# Altium footprint library F83720700051.PcbLib: 1 footprints
Each footprint in its own frame and in the unit in brackets; x right, y up, seen from the top. Pads: shape width x height; smd on the part's side, far side on the other; paste and mask are expansions set on the pad; w line width, h text height; cw(c..) or ccw(c..) is an arc to the next point about the centre after c.
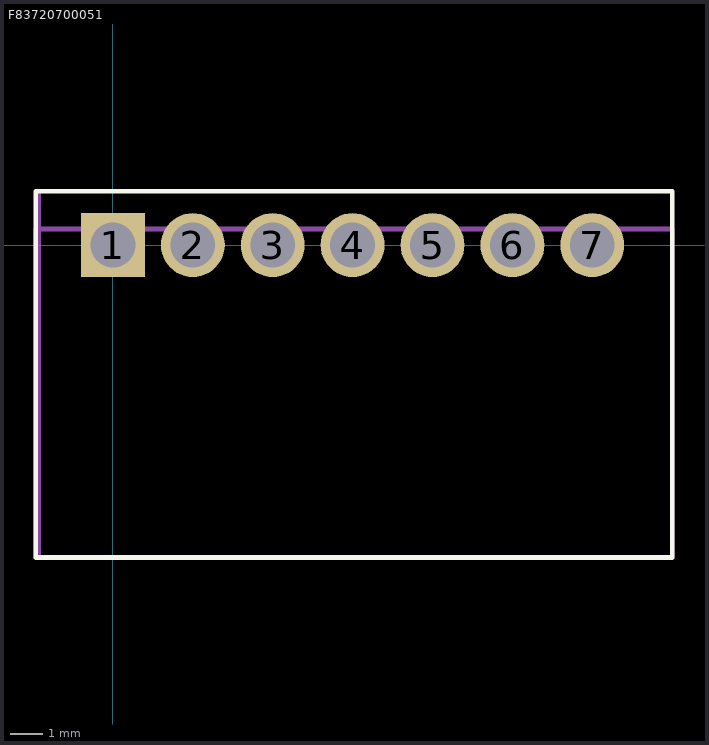
[diagram p0: the footprint, top view; thin cyan lines are the x and y axes]

## F83720700051 [mm] "Pitch2.5mm  Body 17.5X10mm High8mm"
height 8
pads (7):
  rect 2x2 hole 1.4: 1(0,0)
  round 2 hole 1.4: 2(2.5,0) 3(5,0) 4(7.5,0) 5(10,0) 6(12.5,0) 7(15,0)
Top Overlay:
  lines w0.152: -2.413,-9.779 -2.413,1.684 17.5,1.684 17.5,-9.779 -2.413,-9.779
Mechanical 13:
  lines w0.152: -2.413,-9.779 -2.413,0.508 17.5,0.508 17.5,-9.779 -2.413,-9.779
Mechanical 15:
  lines w0.1: -2.3,-9.779 -2.3,1.71 17.5,1.71 17.5,-9.779 -2.3,-9.779